# Altium schematic symbol library WCAP-ATLL.SchLib: 209 symbols (part 3 of 5)
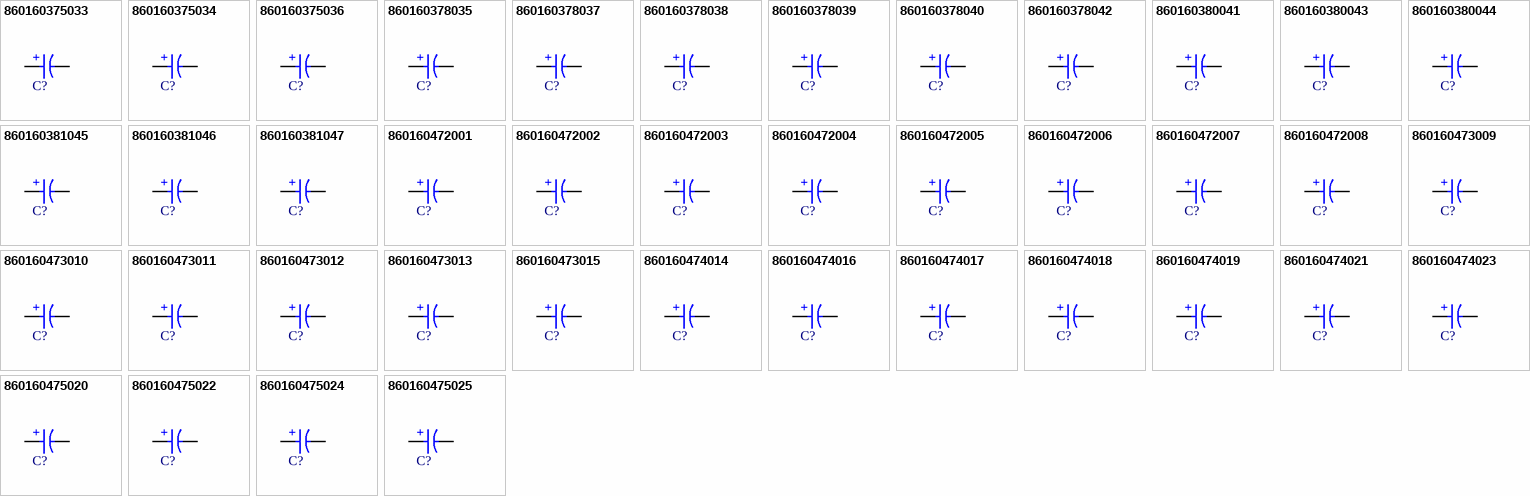
[diagram p7: symbols 860160375033 to 860160475025]

## 860160473010
designator C?, comment 82µF  (value not drawn)
WCAP-ATLL Aluminum Electrolytic Capacitor, Radial, THT, D6.3 x H11mm, 82µF, 25V; Manufacturer Part Number: 860160473010; Manufacturer: Wurth Elektronik; Capacitance Tolerance: +/-20%; Dissipation Factor: 14%; Endurance: 4000h; Leakage Current: 20.5µA; Ripple Current: 312mA; Technical Reference: ATED110820M025DSPA4D000; Category: Aluminum Electrolytic Capacitors; Match Code: WCAP-ATLL; ComponentLink1Description: Website Link; ComponentLink1URL: https://www.we-online.com/redexpert/article/860160473010?ad; ComponentLink2Description: Datasheet Link; ComponentLink2URL: https://www.we-online.com/redexpert/spec/860160473010?ad; Mount: Through Hole; Operating Temperature Max: 105°C; Operating Temperature Min: -55°C; Packaging: Ammo Pack; Height: 11mm; Diameter: 6.3mm; Capacitance: 82µF; Rated Voltage (DC): 25V
footprint WCAP-ATLL_D6.3H11
simulation model 860160473010_82uF
pins: 1 P, 2 N
text: +

## 860160473011
designator C?, comment 100µF  (value not drawn)
WCAP-ATLL Aluminum Electrolytic Capacitor, Radial, THT, D6.3 x H11mm, 100µF, 25V; Manufacturer Part Number: 860160473011; Manufacturer: Wurth Elektronik; Capacitance Tolerance: +/-20%; Dissipation Factor: 14%; Endurance: 4000h; Leakage Current: 25µA; Ripple Current: 360mA; Technical Reference: ATED110101M025DSPA4D000; Category: Aluminum Electrolytic Capacitors; Match Code: WCAP-ATLL; ComponentLink1Description: Website Link; ComponentLink1URL: https://www.we-online.com/redexpert/article/860160473011?ad; ComponentLink2Description: Datasheet Link; ComponentLink2URL: https://www.we-online.com/redexpert/spec/860160473011?ad; Mount: Through Hole; Operating Temperature Max: 105°C; Operating Temperature Min: -55°C; Packaging: Ammo Pack; Height: 11mm; Diameter: 6.3mm; Capacitance: 100µF; Rated Voltage (DC): 25V
footprint WCAP-ATLL_D6.3H11
simulation model 860160473011_100uF
pins: 1 P, 2 N
text: +

## 860160473012
designator C?, comment 120µF  (value not drawn)
WCAP-ATLL Aluminum Electrolytic Capacitor, Radial, THT, D6.3 x H11mm, 120µF, 25V; Manufacturer Part Number: 860160473012; Manufacturer: Wurth Elektronik; Capacitance Tolerance: +/-20%; Dissipation Factor: 14%; Endurance: 4000h; Leakage Current: 30µA; Ripple Current: 402mA; Technical Reference: ATED110121M025DSPA4D000; Category: Aluminum Electrolytic Capacitors; Match Code: WCAP-ATLL; ComponentLink1Description: Website Link; ComponentLink1URL: https://www.we-online.com/redexpert/article/860160473012?ad; ComponentLink2Description: Datasheet Link; ComponentLink2URL: https://www.we-online.com/redexpert/spec/860160473012?ad; Mount: Through Hole; Operating Temperature Max: 105°C; Operating Temperature Min: -55°C; Packaging: Ammo Pack; Height: 11mm; Diameter: 6.3mm; Capacitance: 120µF; Rated Voltage (DC): 25V
footprint WCAP-ATLL_D6.3H11
simulation model 860160473012_120uF
pins: 1 P, 2 N
text: +

## 860160473013
designator C?, comment 150µF  (value not drawn)
WCAP-ATLL Aluminum Electrolytic Capacitor, Radial, THT, D6.3 x H15mm, 150µF, 25V; Manufacturer Part Number: 860160473013; Manufacturer: Wurth Elektronik; Capacitance Tolerance: +/-20%; Dissipation Factor: 14%; Endurance: 4000h; Leakage Current: 37.5µA; Ripple Current: 510mA; Technical Reference: ATED150151M025DSPA4D000; Category: Aluminum Electrolytic Capacitors; Match Code: WCAP-ATLL; ComponentLink1Description: Website Link; ComponentLink1URL: https://www.we-online.com/redexpert/article/860160473013?ad; ComponentLink2Description: Datasheet Link; ComponentLink2URL: https://www.we-online.com/redexpert/spec/860160473013?ad; Mount: Through Hole; Operating Temperature Max: 105°C; Operating Temperature Min: -55°C; Packaging: Ammo Pack; Height: 15mm; Diameter: 6.3mm; Capacitance: 150µF; Rated Voltage (DC): 25V
footprint WCAP-ATLL_D6.3H15
simulation model 860160473013_150uF
pins: 1 P, 2 N
text: +

## 860160473015
designator C?, comment 180µF  (value not drawn)
WCAP-ATLL Aluminum Electrolytic Capacitor, Radial, THT, D6.3 x H15mm, 180µF, 25V; Manufacturer Part Number: 860160473015; Manufacturer: Wurth Elektronik; Capacitance Tolerance: +/-20%; Dissipation Factor: 14%; Endurance: 4000h; Leakage Current: 45µA; Ripple Current: 546mA; Technical Reference: ATED150181M025DSPA4D000; Category: Aluminum Electrolytic Capacitors; Match Code: WCAP-ATLL; ComponentLink1Description: Website Link; ComponentLink1URL: https://www.we-online.com/redexpert/article/860160473015?ad; ComponentLink2Description: Datasheet Link; ComponentLink2URL: https://www.we-online.com/redexpert/spec/860160473015?ad; Mount: Through Hole; Operating Temperature Max: 105°C; Operating Temperature Min: -55°C; Packaging: Ammo Pack; Height: 15mm; Diameter: 6.3mm; Capacitance: 180µF; Rated Voltage (DC): 25V
footprint WCAP-ATLL_D6.3H15
simulation model 860160473015_180uF
pins: 1 P, 2 N
text: +

## 860160474014
designator C?, comment 150µF  (value not drawn)
WCAP-ATLL Aluminum Electrolytic Capacitor, Radial, THT, D8 x H11.5mm, 150µF, 25V; Manufacturer Part Number: 860160474014; Manufacturer: Wurth Elektronik; Capacitance Tolerance: +/-20%; Dissipation Factor: 14%; Endurance: 7000h; Leakage Current: 37.5µA; Ripple Current: 528mA; Technical Reference: ATEE115151M025DSPA7G000; Category: Aluminum Electrolytic Capacitors; Match Code: WCAP-ATLL; ComponentLink1Description: Website Link; ComponentLink1URL: https://www.we-online.com/redexpert/article/860160474014?ad; ComponentLink2Description: Datasheet Link; ComponentLink2URL: https://www.we-online.com/redexpert/spec/860160474014?ad; Mount: Through Hole; Operating Temperature Max: 105°C; Operating Temperature Min: -55°C; Packaging: Ammo Pack; Height: 11.5mm; Diameter: 8mm; Capacitance: 150µF; Rated Voltage (DC): 25V
footprint WCAP-ATLL_D8H11.5
simulation model 860160474014_150uF
pins: 1 P, 2 N
text: +

## 860160474016
designator C?, comment 180µF  (value not drawn)
WCAP-ATLL Aluminum Electrolytic Capacitor, Radial, THT, D8 x H11.5mm, 180µF, 25V; Manufacturer Part Number: 860160474016; Manufacturer: Wurth Elektronik; Capacitance Tolerance: +/-20%; Dissipation Factor: 14%; Endurance: 7000h; Leakage Current: 45µA; Ripple Current: 552mA; Technical Reference: ATEE115181M025DSPA7G000; Category: Aluminum Electrolytic Capacitors; Match Code: WCAP-ATLL; ComponentLink1Description: Website Link; ComponentLink1URL: https://www.we-online.com/redexpert/article/860160474016?ad; ComponentLink2Description: Datasheet Link; ComponentLink2URL: https://www.we-online.com/redexpert/spec/860160474016?ad; Mount: Through Hole; Operating Temperature Max: 105°C; Operating Temperature Min: -55°C; Packaging: Ammo Pack; Height: 11.5mm; Diameter: 8mm; Capacitance: 180µF; Rated Voltage (DC): 25V
footprint WCAP-ATLL_D8H11.5
simulation model 860160474016_180uF
pins: 1 P, 2 N
text: +

## 860160474017
designator C?, comment 220µF  (value not drawn)
WCAP-ATLL Aluminum Electrolytic Capacitor, Radial, THT, D8 x H11.5mm, 220µF, 25V; Manufacturer Part Number: 860160474017; Manufacturer: Wurth Elektronik; Capacitance Tolerance: +/-20%; Dissipation Factor: 14%; Endurance: 7000h; Leakage Current: 55µA; Ripple Current: 618mA; Technical Reference: ATEE115221M025DSPA7G000; Category: Aluminum Electrolytic Capacitors; Match Code: WCAP-ATLL; ComponentLink1Description: Website Link; ComponentLink1URL: https://www.we-online.com/redexpert/article/860160474017?ad; ComponentLink2Description: Datasheet Link; ComponentLink2URL: https://www.we-online.com/redexpert/spec/860160474017?ad; Mount: Through Hole; Operating Temperature Max: 105°C; Operating Temperature Min: -55°C; Packaging: Ammo Pack; Height: 11.5mm; Diameter: 8mm; Capacitance: 220µF; Rated Voltage (DC): 25V
footprint WCAP-ATLL_D8H11.5
simulation model 860160474017_220uF
pins: 1 P, 2 N
text: +

## 860160474018
designator C?, comment 270µF  (value not drawn)
WCAP-ATLL Aluminum Electrolytic Capacitor, Radial, THT, D8 x H11.5mm, 270µF, 25V; Manufacturer Part Number: 860160474018; Manufacturer: Wurth Elektronik; Capacitance Tolerance: +/-20%; Dissipation Factor: 14%; Endurance: 4000h; Leakage Current: 67.5µA; Ripple Current: 750mA; Technical Reference: ATEE115271M025DSPA7D000; Category: Aluminum Electrolytic Capacitors; Match Code: WCAP-ATLL; ComponentLink1Description: Website Link; ComponentLink1URL: https://www.we-online.com/redexpert/article/860160474018?ad; ComponentLink2Description: Datasheet Link; ComponentLink2URL: https://www.we-online.com/redexpert/spec/860160474018?ad; Mount: Through Hole; Operating Temperature Max: 105°C; Operating Temperature Min: -55°C; Packaging: Ammo Pack; Height: 11.5mm; Diameter: 8mm; Capacitance: 270µF; Rated Voltage (DC): 25V
footprint WCAP-ATLL_D8H11.5
simulation model 860160474018_270uF
pins: 1 P, 2 N
text: +

## 860160474019
designator C?, comment 330µF  (value not drawn)
WCAP-ATLL Aluminum Electrolytic Capacitor, Radial, THT, D8 x H16mm, 330µF, 25V; Manufacturer Part Number: 860160474019; Manufacturer: Wurth Elektronik; Capacitance Tolerance: +/-20%; Dissipation Factor: 14%; Endurance: 7000h; Leakage Current: 82.5µA; Ripple Current: 960mA; Technical Reference: ATEE160331M025DSPA7G000; Category: Aluminum Electrolytic Capacitors; Match Code: WCAP-ATLL; ComponentLink1Description: Website Link; ComponentLink1URL: https://www.we-online.com/redexpert/article/860160474019?ad; ComponentLink2Description: Datasheet Link; ComponentLink2URL: https://www.we-online.com/redexpert/spec/860160474019?ad; Mount: Through Hole; Operating Temperature Max: 105°C; Operating Temperature Min: -55°C; Packaging: Ammo Pack; Height: 16mm; Diameter: 8mm; Capacitance: 330µF; Rated Voltage (DC): 25V
footprint WCAP-ATLL_D8H16
simulation model 860160474019_330uF
pins: 1 P, 2 N
text: +

## 860160474021
designator C?, comment 470µF  (value not drawn)
WCAP-ATLL Aluminum Electrolytic Capacitor, Radial, THT, D8 x H20mm, 470µF, 25V; Manufacturer Part Number: 860160474021; Manufacturer: Wurth Elektronik; Capacitance Tolerance: +/-20%; Dissipation Factor: 14%; Endurance: 7000h; Leakage Current: 117.5µA; Ripple Current: 1056mA; Technical Reference: ATEE200471M025DSPA7G000; Category: Aluminum Electrolytic Capacitors; Match Code: WCAP-ATLL; ComponentLink1Description: Website Link; ComponentLink1URL: https://www.we-online.com/redexpert/article/860160474021?ad; ComponentLink2Description: Datasheet Link; ComponentLink2URL: https://www.we-online.com/redexpert/spec/860160474021?ad; Mount: Through Hole; Operating Temperature Max: 105°C; Operating Temperature Min: -55°C; Packaging: Ammo Pack; Height: 20mm; Diameter: 8mm; Capacitance: 470µF; Rated Voltage (DC): 25V
footprint WCAP-ATLL_D8H20
simulation model 860160474021_470uF
pins: 1 P, 2 N
text: +

## 860160474023
designator C?, comment 560µF  (value not drawn)
WCAP-ATLL Aluminum Electrolytic Capacitor, Radial, THT, D8 x H20mm, 560µF, 25V; Manufacturer Part Number: 860160474023; Manufacturer: Wurth Elektronik; Capacitance Tolerance: +/-20%; Dissipation Factor: 14%; Endurance: 4000h; Leakage Current: 140µA; Ripple Current: 1224mA; Technical Reference: ATEE200561M025DSPA7D000; Category: Aluminum Electrolytic Capacitors; Match Code: WCAP-ATLL; ComponentLink1Description: Website Link; ComponentLink1URL: https://www.we-online.com/redexpert/article/860160474023?ad; ComponentLink2Description: Datasheet Link; ComponentLink2URL: https://www.we-online.com/redexpert/spec/860160474023?ad; Mount: Through Hole; Operating Temperature Max: 105°C; Operating Temperature Min: -55°C; Packaging: Ammo Pack; Height: 20mm; Diameter: 8mm; Capacitance: 560µF; Rated Voltage (DC): 25V
footprint WCAP-ATLL_D8H20
simulation model 860160474023_560uF
pins: 1 P, 2 N
text: +

## 860160475020
designator C?, comment 330µF  (value not drawn)
WCAP-ATLL Aluminum Electrolytic Capacitor, Radial, THT, D10 x H12.5mm, 330µF, 25V; Manufacturer Part Number: 860160475020; Manufacturer: Wurth Elektronik; Capacitance Tolerance: +/-20%; Dissipation Factor: 14%; Endurance: 7000h; Leakage Current: 82.5µA; Ripple Current: 924mA; Technical Reference: ATEF125331M025DSPA9G000; Category: Aluminum Electrolytic Capacitors; Match Code: WCAP-ATLL; ComponentLink1Description: Website Link; ComponentLink1URL: https://www.we-online.com/redexpert/article/860160475020?ad; ComponentLink2Description: Datasheet Link; ComponentLink2URL: https://www.we-online.com/redexpert/spec/860160475020?ad; Mount: Through Hole; Operating Temperature Max: 105°C; Operating Temperature Min: -55°C; Packaging: Ammo Pack; Height: 12.5mm; Diameter: 10mm; Capacitance: 330µF; Rated Voltage (DC): 25V
footprint WCAP-ATLL_D10H12.5
simulation model 860160475020_330uF
pins: 1 P, 2 N
text: +

## 860160475022
designator C?, comment 470µF  (value not drawn)
WCAP-ATLL Aluminum Electrolytic Capacitor, Radial, THT, D10 x H12.5mm, 470µF, 25V; Manufacturer Part Number: 860160475022; Manufacturer: Wurth Elektronik; Capacitance Tolerance: +/-20%; Dissipation Factor: 14%; Endurance: 6000h; Leakage Current: 117.5µA; Ripple Current: 1020mA; Technical Reference: ATEF125471M025DSPA9F000; Category: Aluminum Electrolytic Capacitors; Match Code: WCAP-ATLL; ComponentLink1Description: Website Link; ComponentLink1URL: https://www.we-online.com/redexpert/article/860160475022?ad; ComponentLink2Description: Datasheet Link; ComponentLink2URL: https://www.we-online.com/redexpert/spec/860160475022?ad; Mount: Through Hole; Operating Temperature Max: 105°C; Operating Temperature Min: -55°C; Packaging: Ammo Pack; Height: 12.5mm; Diameter: 10mm; Capacitance: 470µF; Rated Voltage (DC): 25V
footprint WCAP-ATLL_D10H12.5
simulation model 860160475022_470uF
pins: 1 P, 2 N
text: +

## 860160475024
designator C?, comment 560µF  (value not drawn)
WCAP-ATLL Aluminum Electrolytic Capacitor, Radial, THT, D10 x H16mm, 560µF, 25V; Manufacturer Part Number: 860160475024; Manufacturer: Wurth Elektronik; Capacitance Tolerance: +/-20%; Dissipation Factor: 14%; Endurance: 7000h; Leakage Current: 140µA; Ripple Current: 1260mA; Technical Reference: ATEF160561M025DSPAAG000; Category: Aluminum Electrolytic Capacitors; Match Code: WCAP-ATLL; ComponentLink1Description: Website Link; ComponentLink1URL: https://www.we-online.com/redexpert/article/860160475024?ad; ComponentLink2Description: Datasheet Link; ComponentLink2URL: https://www.we-online.com/redexpert/spec/860160475024?ad; Mount: Through Hole; Operating Temperature Max: 105°C; Operating Temperature Min: -55°C; Packaging: Ammo Pack; Height: 16mm; Diameter: 10mm; Capacitance: 560µF; Rated Voltage (DC): 25V
footprint WCAP-ATLL_D10H16
simulation model 860160475024_560uF
pins: 1 P, 2 N
text: +

## 860160475025
designator C?, comment 680µF  (value not drawn)
WCAP-ATLL Aluminum Electrolytic Capacitor, Radial, THT, D10 x H20mm, 680µF, 25V; Manufacturer Part Number: 860160475025; Manufacturer: Wurth Elektronik; Capacitance Tolerance: +/-20%; Dissipation Factor: 14%; Endurance: 7000h; Leakage Current: 170µA; Ripple Current: 1470mA; Technical Reference: ATEF200681M025DSPAAG000; Category: Aluminum Electrolytic Capacitors; Match Code: WCAP-ATLL; ComponentLink1Description: Website Link; ComponentLink1URL: https://www.we-online.com/redexpert/article/860160475025?ad; ComponentLink2Description: Datasheet Link; ComponentLink2URL: https://www.we-online.com/redexpert/spec/860160475025?ad; Mount: Through Hole; Operating Temperature Max: 105°C; Operating Temperature Min: -55°C; Packaging: Ammo Pack; Height: 20mm; Diameter: 10mm; Capacitance: 680µF; Rated Voltage (DC): 25V
footprint WCAP-ATLL_D10H20
simulation model 860160475025_680uF
pins: 1 P, 2 N
text: +

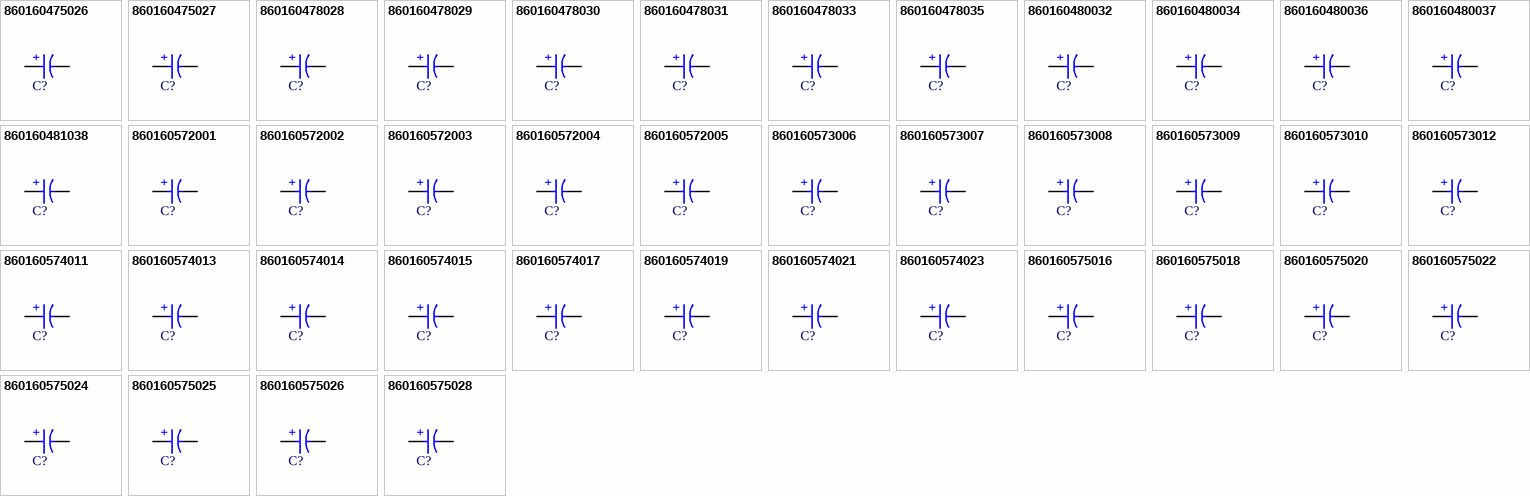
[diagram p3: symbols 860160475026 to 860160575028]

## 860160475026
designator C?, comment 820µF  (value not drawn)
WCAP-ATLL Aluminum Electrolytic Capacitor, Radial, THT, D10 x H20mm, 820µF, 25V; Manufacturer Part Number: 860160475026; Manufacturer: Wurth Elektronik; Capacitance Tolerance: +/-20%; Dissipation Factor: 14%; Endurance: 6000h; Leakage Current: 205µA; Ripple Current: 1668mA; Technical Reference: ATEF200821M025DSPAAF000; Category: Aluminum Electrolytic Capacitors; Match Code: WCAP-ATLL; ComponentLink1Description: Website Link; ComponentLink1URL: https://www.we-online.com/redexpert/article/860160475026?ad; ComponentLink2Description: Datasheet Link; ComponentLink2URL: https://www.we-online.com/redexpert/spec/860160475026?ad; Mount: Through Hole; Operating Temperature Max: 105°C; Operating Temperature Min: -55°C; Packaging: Ammo Pack; Height: 20mm; Diameter: 10mm; Capacitance: 820µF; Rated Voltage (DC): 25V
footprint WCAP-ATLL_D10H20
simulation model 860160475026_820uF
pins: 1 P, 2 N
text: +

## 860160475027
designator C?, comment 1000µF  (value not drawn)
WCAP-ATLL Aluminum Electrolytic Capacitor, Radial, THT, D10 x H25mm, 1000µF, 25V; Manufacturer Part Number: 860160475027; Manufacturer: Wurth Elektronik; Capacitance Tolerance: +/-20%; Dissipation Factor: 14%; Endurance: 6000h; Leakage Current: 250µA; Ripple Current: 1812mA; Technical Reference: ATEF250102M025DSPAAF000; Category: Aluminum Electrolytic Capacitors; Match Code: WCAP-ATLL; ComponentLink1Description: Website Link; ComponentLink1URL: https://www.we-online.com/redexpert/article/860160475027?ad; ComponentLink2Description: Datasheet Link; ComponentLink2URL: https://www.we-online.com/redexpert/spec/860160475027?ad; Mount: Through Hole; Operating Temperature Max: 105°C; Operating Temperature Min: -55°C; Packaging: Ammo Pack; Height: 25mm; Diameter: 10mm; Capacitance: 1000µF; Rated Voltage (DC): 25V
footprint WCAP-ATLL_D10H25
simulation model 860160475027_1mF
pins: 1 P, 2 N
text: +

## 860160478028
designator C?, comment 1000µF  (value not drawn)
WCAP-ATLL Aluminum Electrolytic Capacitor, Radial, THT, D13 x H20mm, 1000µF, 25V; Manufacturer Part Number: 860160478028; Manufacturer: Wurth Elektronik; Capacitance Tolerance: +/-20%; Dissipation Factor: 14%; Endurance: 10000h; Leakage Current: 250µA; Ripple Current: 1872mA; Technical Reference: ATEI200102M025DSPACK000; Category: Aluminum Electrolytic Capacitors; Match Code: WCAP-ATLL; ComponentLink1Description: Website Link; ComponentLink1URL: https://www.we-online.com/redexpert/article/860160478028?ad; ComponentLink2Description: Datasheet Link; ComponentLink2URL: https://www.we-online.com/redexpert/spec/860160478028?ad; Mount: Through Hole; Operating Temperature Max: 105°C; Operating Temperature Min: -55°C; Packaging: Ammo Pack; Height: 20mm; Diameter: 13mm; Capacitance: 1000µF; Rated Voltage (DC): 25V
footprint WCAP-ATLL_D13H20
simulation model 860160478028_1mF
pins: 1 P, 2 N
text: +

## 860160478029
designator C?, comment 1200µF  (value not drawn)
WCAP-ATLL Aluminum Electrolytic Capacitor, Radial, THT, D13 x H20mm, 1200µF, 25V; Manufacturer Part Number: 860160478029; Manufacturer: Wurth Elektronik; Capacitance Tolerance: +/-20%; Dissipation Factor: 14%; Endurance: 10000h; Leakage Current: 300µA; Ripple Current: 2028mA; Technical Reference: ATEI200122M025DSPACK000; Category: Aluminum Electrolytic Capacitors; Match Code: WCAP-ATLL; ComponentLink1Description: Website Link; ComponentLink1URL: https://www.we-online.com/redexpert/article/860160478029?ad; ComponentLink2Description: Datasheet Link; ComponentLink2URL: https://www.we-online.com/redexpert/spec/860160478029?ad; Mount: Through Hole; Operating Temperature Max: 105°C; Operating Temperature Min: -55°C; Packaging: Ammo Pack; Height: 20mm; Diameter: 13mm; Capacitance: 1200µF; Rated Voltage (DC): 25V
footprint WCAP-ATLL_D13H20
simulation model 860160478029_1.2mF
pins: 1 P, 2 N
text: +

## 860160478030
designator C?, comment 1500µF  (value not drawn)
WCAP-ATLL Aluminum Electrolytic Capacitor, Radial, THT, D13 x H20mm, 1500µF, 25V; Manufacturer Part Number: 860160478030; Manufacturer: Wurth Elektronik; Capacitance Tolerance: +/-20%; Dissipation Factor: 14%; Endurance: 7000h; Leakage Current: 375µA; Ripple Current: 2124mA; Technical Reference: ATEI200152M025DSPACG000; Category: Aluminum Electrolytic Capacitors; Match Code: WCAP-ATLL; ComponentLink1Description: Website Link; ComponentLink1URL: https://www.we-online.com/redexpert/article/860160478030?ad; ComponentLink2Description: Datasheet Link; ComponentLink2URL: https://www.we-online.com/redexpert/spec/860160478030?ad; Mount: Through Hole; Operating Temperature Max: 105°C; Operating Temperature Min: -55°C; Packaging: Ammo Pack; Height: 20mm; Diameter: 13mm; Capacitance: 1500µF; Rated Voltage (DC): 25V
footprint WCAP-ATLL_D13H20
simulation model 860160478030_1.5mF
pins: 1 P, 2 N
text: +

## 860160478031
designator C?, comment 1800µF  (value not drawn)
WCAP-ATLL Aluminum Electrolytic Capacitor, Radial, THT, D13 x H30mm, 1800µF, 25V; Manufacturer Part Number: 860160478031; Manufacturer: Wurth Elektronik; Capacitance Tolerance: +/-20%; Dissipation Factor: 14%; Endurance: 10000h; Leakage Current: 450µA; Ripple Current: 2310mA; Technical Reference: ATEI300182M025DSPACK000; Category: Aluminum Electrolytic Capacitors; Match Code: WCAP-ATLL; ComponentLink1Description: Website Link; ComponentLink1URL: https://www.we-online.com/redexpert/article/860160478031?ad; ComponentLink2Description: Datasheet Link; ComponentLink2URL: https://www.we-online.com/redexpert/spec/860160478031?ad; Mount: Through Hole; Operating Temperature Max: 105°C; Operating Temperature Min: -55°C; Packaging: Ammo Pack; Height: 30mm; Diameter: 13mm; Capacitance: 1800µF; Rated Voltage (DC): 25V
footprint WCAP-ATLL_D13H30
simulation model 860160478031_1.8mF
pins: 1 P, 2 N
text: +

## 860160478033
designator C?, comment 2200µF  (value not drawn)
WCAP-ATLL Aluminum Electrolytic Capacitor, Radial, THT, D13 x H30mm, 2200µF, 25V; Manufacturer Part Number: 860160478033; Manufacturer: Wurth Elektronik; Capacitance Tolerance: +/-20%; Dissipation Factor: 14%; Endurance: 7000h; Leakage Current: 550µA; Ripple Current: 2592mA; Technical Reference: ATEI300222M025DSPACG000; Category: Aluminum Electrolytic Capacitors; Match Code: WCAP-ATLL; ComponentLink1Description: Website Link; ComponentLink1URL: https://www.we-online.com/redexpert/article/860160478033?ad; ComponentLink2Description: Datasheet Link; ComponentLink2URL: https://www.we-online.com/redexpert/spec/860160478033?ad; Mount: Through Hole; Operating Temperature Max: 105°C; Operating Temperature Min: -55°C; Packaging: Ammo Pack; Height: 30mm; Diameter: 13mm; Capacitance: 2200µF; Rated Voltage (DC): 25V
footprint WCAP-ATLL_D13H30
simulation model 860160478033_2.2mF
pins: 1 P, 2 N
text: +

## 860160478035
designator C?, comment 2700µF  (value not drawn)
WCAP-ATLL Aluminum Electrolytic Capacitor, Radial, THT, D13 x H35mm, 2700µF, 25V; Manufacturer Part Number: 860160478035; Manufacturer: Wurth Elektronik; Capacitance Tolerance: +/-20%; Dissipation Factor: 14%; Endurance: 10000h; Leakage Current: 675µA; Ripple Current: 2850mA; Technical Reference: ATEI350272M025DSPABK000; Category: Aluminum Electrolytic Capacitors; Match Code: WCAP-ATLL; ComponentLink1Description: Website Link; ComponentLink1URL: https://www.we-online.com/redexpert/article/860160478035?ad; ComponentLink2Description: Datasheet Link; ComponentLink2URL: https://www.we-online.com/redexpert/spec/860160478035?ad; Mount: Through Hole; Operating Temperature Max: 105°C; Operating Temperature Min: -55°C; Packaging: Ammo Pack; Height: 35mm; Diameter: 13mm; Capacitance: 2700µF; Rated Voltage (DC): 25V
footprint WCAP-ATLL_D13H35
simulation model 860160478035_2.7mF
pins: 1 P, 2 N
text: +

## 860160480032
designator C?, comment 1800µF  (value not drawn)
WCAP-ATLL Aluminum Electrolytic Capacitor, Radial, THT, D16 x H25mm, 1800µF, 25V; Manufacturer Part Number: 860160480032; Manufacturer: Wurth Elektronik; Capacitance Tolerance: +/-20%; Dissipation Factor: 14%; Endurance: 10000h; Leakage Current: 450µA; Ripple Current: 2340mA; Technical Reference: ATEK250182M025DSPAEK000; Category: Aluminum Electrolytic Capacitors; Match Code: WCAP-ATLL; ComponentLink1Description: Website Link; ComponentLink1URL: https://www.we-online.com/redexpert/article/860160480032?ad; ComponentLink2Description: Datasheet Link; ComponentLink2URL: https://www.we-online.com/redexpert/spec/860160480032?ad; Mount: Through Hole; Operating Temperature Max: 105°C; Operating Temperature Min: -55°C; Packaging: Ammo Pack; Height: 25mm; Diameter: 16mm; Capacitance: 1800µF; Rated Voltage (DC): 25V
footprint WCAP-ATLL_D16H25
simulation model 860160480032_1.8mF
pins: 1 P, 2 N
text: +

## 860160480034
designator C?, comment 2200µF  (value not drawn)
WCAP-ATLL Aluminum Electrolytic Capacitor, Radial, THT, D16 x H25mm, 2200µF, 25V; Manufacturer Part Number: 860160480034; Manufacturer: Wurth Elektronik; Capacitance Tolerance: +/-20%; Dissipation Factor: 14%; Endurance: 10000h; Leakage Current: 550µA; Ripple Current: 2712mA; Technical Reference: ATEK250222M025DSPAEK000; Category: Aluminum Electrolytic Capacitors; Match Code: WCAP-ATLL; ComponentLink1Description: Website Link; ComponentLink1URL: https://www.we-online.com/redexpert/article/860160480034?ad; ComponentLink2Description: Datasheet Link; ComponentLink2URL: https://www.we-online.com/redexpert/spec/860160480034?ad; Mount: Through Hole; Operating Temperature Max: 105°C; Operating Temperature Min: -55°C; Packaging: Ammo Pack; Height: 25mm; Diameter: 16mm; Capacitance: 2200µF; Rated Voltage (DC): 25V
footprint WCAP-ATLL_D16H25
simulation model 860160480034_2.2mF
pins: 1 P, 2 N
text: +

## 860160480036
designator C?, comment 2700µF  (value not drawn)
WCAP-ATLL Aluminum Electrolytic Capacitor, Radial, THT, D16 x H31.5mm, 2700µF, 25V; Manufacturer Part Number: 860160480036; Manufacturer: Wurth Elektronik; Capacitance Tolerance: +/-20%; Dissipation Factor: 14%; Endurance: 10000h; Leakage Current: 675µA; Ripple Current: 2958mA; Technical Reference: ATEK315272M025DSPADK000; Category: Aluminum Electrolytic Capacitors; Match Code: WCAP-ATLL; ComponentLink1Description: Website Link; ComponentLink1URL: https://www.we-online.com/redexpert/article/860160480036?ad; ComponentLink2Description: Datasheet Link; ComponentLink2URL: https://www.we-online.com/redexpert/spec/860160480036?ad; Mount: Through Hole; Operating Temperature Max: 105°C; Operating Temperature Min: -55°C; Packaging: Ammo Pack; Height: 31.5mm; Diameter: 16mm; Capacitance: 2700µF; Rated Voltage (DC): 25V
footprint WCAP-ATLL_D16H31.5
simulation model 860160480036_2.7mF
pins: 1 P, 2 N
text: +

## 860160480037
designator C?, comment 3300µF  (value not drawn)
WCAP-ATLL Aluminum Electrolytic Capacitor, Radial, THT, D16 x H31.5mm, 3300µF, 25V; Manufacturer Part Number: 860160480037; Manufacturer: Wurth Elektronik; Capacitance Tolerance: +/-20%; Dissipation Factor: 14%; Endurance: 7000h; Leakage Current: 825µA; Ripple Current: 3204mA; Technical Reference: ATEK315332M025DSPADG000; Category: Aluminum Electrolytic Capacitors; Match Code: WCAP-ATLL; ComponentLink1Description: Website Link; ComponentLink1URL: https://www.we-online.com/redexpert/article/860160480037?ad; ComponentLink2Description: Datasheet Link; ComponentLink2URL: https://www.we-online.com/redexpert/spec/860160480037?ad; Mount: Through Hole; Operating Temperature Max: 105°C; Operating Temperature Min: -55°C; Packaging: Ammo Pack; Height: 31.5mm; Diameter: 16mm; Capacitance: 3300µF; Rated Voltage (DC): 25V
footprint WCAP-ATLL_D16H31.5
simulation model 860160480037_3.3mF
pins: 1 P, 2 N
text: +

## 860160481038
designator C?, comment 3300µF  (value not drawn)
WCAP-ATLL Aluminum Electrolytic Capacitor, Radial, THT, D18 x H25mm, 3300µF, 25V; Manufacturer Part Number: 860160481038; Manufacturer: Wurth Elektronik; Capacitance Tolerance: +/-20%; Dissipation Factor: 14%; Endurance: 7000h; Leakage Current: 825µA; Ripple Current: 3156mA; Technical Reference: ATEL250332M025DSPAEG000; Category: Aluminum Electrolytic Capacitors; Match Code: WCAP-ATLL; ComponentLink1Description: Website Link; ComponentLink1URL: https://www.we-online.com/redexpert/article/860160481038?ad; ComponentLink2Description: Datasheet Link; ComponentLink2URL: https://www.we-online.com/redexpert/spec/860160481038?ad; Mount: Through Hole; Operating Temperature Max: 105°C; Operating Temperature Min: -55°C; Packaging: Ammo Pack; Height: 25mm; Diameter: 18mm; Capacitance: 3300µF; Rated Voltage (DC): 25V
footprint WCAP-ATLL_D18H25
simulation model 860160481038_3.3mF
pins: 1 P, 2 N
text: +

## 860160572001
designator C?, comment 10µF  (value not drawn)
WCAP-ATLL Aluminum Electrolytic Capacitor, Radial, THT, D5 x H11mm, 10µF, 35V; Manufacturer Part Number: 860160572001; Manufacturer: Wurth Elektronik; Capacitance Tolerance: +/-20%; Dissipation Factor: 12%; Endurance: 4000h; Leakage Current: 3.5µA; Ripple Current: 84mA; Technical Reference: ATEC110100M035DSPA3D000; Category: Aluminum Electrolytic Capacitors; Match Code: WCAP-ATLL; ComponentLink1Description: Website Link; ComponentLink1URL: https://www.we-online.com/redexpert/article/860160572001?ad; ComponentLink2Description: Datasheet Link; ComponentLink2URL: https://www.we-online.com/redexpert/spec/860160572001?ad; Mount: Through Hole; Operating Temperature Max: 105°C; Operating Temperature Min: -55°C; Packaging: Ammo Pack; Height: 11mm; Diameter: 5mm; Capacitance: 10µF; Rated Voltage (DC): 35V
footprint WCAP-ATLL_D5H11
simulation model 860160572001_10uF
pins: 1 P, 2 N
text: +

## 860160572002
designator C?, comment 15µF  (value not drawn)
WCAP-ATLL Aluminum Electrolytic Capacitor, Radial, THT, D5 x H11mm, 15µF, 35V; Manufacturer Part Number: 860160572002; Manufacturer: Wurth Elektronik; Capacitance Tolerance: +/-20%; Dissipation Factor: 12%; Endurance: 4000h; Leakage Current: 5.25µA; Ripple Current: 144mA; Technical Reference: ATEC110150M035DSPA3D000; Category: Aluminum Electrolytic Capacitors; Match Code: WCAP-ATLL; ComponentLink1Description: Website Link; ComponentLink1URL: https://www.we-online.com/redexpert/article/860160572002?ad; ComponentLink2Description: Datasheet Link; ComponentLink2URL: https://www.we-online.com/redexpert/spec/860160572002?ad; Mount: Through Hole; Operating Temperature Max: 105°C; Operating Temperature Min: -55°C; Packaging: Ammo Pack; Height: 11mm; Diameter: 5mm; Capacitance: 15µF; Rated Voltage (DC): 35V
footprint WCAP-ATLL_D5H11
simulation model 860160572002_15uF
pins: 1 P, 2 N
text: +

## 860160572003
designator C?, comment 22µF  (value not drawn)
WCAP-ATLL Aluminum Electrolytic Capacitor, Radial, THT, D5 x H11mm, 22µF, 35V; Manufacturer Part Number: 860160572003; Manufacturer: Wurth Elektronik; Capacitance Tolerance: +/-20%; Dissipation Factor: 12%; Endurance: 4000h; Leakage Current: 7.7µA; Ripple Current: 162mA; Technical Reference: ATEC110220M035DSPA3D000; Category: Aluminum Electrolytic Capacitors; Match Code: WCAP-ATLL; ComponentLink1Description: Website Link; ComponentLink1URL: https://www.we-online.com/redexpert/article/860160572003?ad; ComponentLink2Description: Datasheet Link; ComponentLink2URL: https://www.we-online.com/redexpert/spec/860160572003?ad; Mount: Through Hole; Operating Temperature Max: 105°C; Operating Temperature Min: -55°C; Packaging: Ammo Pack; Height: 11mm; Diameter: 5mm; Capacitance: 22µF; Rated Voltage (DC): 35V
footprint WCAP-ATLL_D5H11
simulation model 860160572003_22uF
pins: 1 P, 2 N
text: +

## 860160572004
designator C?, comment 27µF  (value not drawn)
WCAP-ATLL Aluminum Electrolytic Capacitor, Radial, THT, D5 x H11mm, 27µF, 35V; Manufacturer Part Number: 860160572004; Manufacturer: Wurth Elektronik; Capacitance Tolerance: +/-20%; Dissipation Factor: 12%; Endurance: 3000h; Leakage Current: 9.45µA; Ripple Current: 174mA; Technical Reference: ATEC110270M035DSPA3C000; Category: Aluminum Electrolytic Capacitors; Match Code: WCAP-ATLL; ComponentLink1Description: Website Link; ComponentLink1URL: https://www.we-online.com/redexpert/article/860160572004?ad; ComponentLink2Description: Datasheet Link; ComponentLink2URL: https://www.we-online.com/redexpert/spec/860160572004?ad; Mount: Through Hole; Operating Temperature Max: 105°C; Operating Temperature Min: -55°C; Packaging: Ammo Pack; Height: 11mm; Diameter: 5mm; Capacitance: 27µF; Rated Voltage (DC): 35V
footprint WCAP-ATLL_D5H11
simulation model 860160572004_27uF
pins: 1 P, 2 N
text: +

## 860160572005
designator C?, comment 33µF  (value not drawn)
WCAP-ATLL Aluminum Electrolytic Capacitor, Radial, THT, D5 x H11mm, 33µF, 35V; Manufacturer Part Number: 860160572005; Manufacturer: Wurth Elektronik; Capacitance Tolerance: +/-20%; Dissipation Factor: 12%; Endurance: 3000h; Leakage Current: 11.55µA; Ripple Current: 222mA; Technical Reference: ATEC110330M035DSPA3C000; Category: Aluminum Electrolytic Capacitors; Match Code: WCAP-ATLL; ComponentLink1Description: Website Link; ComponentLink1URL: https://www.we-online.com/redexpert/article/860160572005?ad; ComponentLink2Description: Datasheet Link; ComponentLink2URL: https://www.we-online.com/redexpert/spec/860160572005?ad; Mount: Through Hole; Operating Temperature Max: 105°C; Operating Temperature Min: -55°C; Packaging: Ammo Pack; Height: 11mm; Diameter: 5mm; Capacitance: 33µF; Rated Voltage (DC): 35V
footprint WCAP-ATLL_D5H11
simulation model 860160572005_33uF
pins: 1 P, 2 N
text: +

## 860160573006
designator C?, comment 39µF  (value not drawn)
WCAP-ATLL Aluminum Electrolytic Capacitor, Radial, THT, D6.3 x H11mm, 39µF, 35V; Manufacturer Part Number: 860160573006; Manufacturer: Wurth Elektronik; Capacitance Tolerance: +/-20%; Dissipation Factor: 12%; Endurance: 4000h; Leakage Current: 13.65µA; Ripple Current: 252mA; Technical Reference: ATED110390M035DSPA4D000; Category: Aluminum Electrolytic Capacitors; Match Code: WCAP-ATLL; ComponentLink1Description: Website Link; ComponentLink1URL: https://www.we-online.com/redexpert/article/860160573006?ad; ComponentLink2Description: Datasheet Link; ComponentLink2URL: https://www.we-online.com/redexpert/spec/860160573006?ad; Mount: Through Hole; Operating Temperature Max: 105°C; Operating Temperature Min: -55°C; Packaging: Ammo Pack; Height: 11mm; Diameter: 6.3mm; Capacitance: 39µF; Rated Voltage (DC): 35V
footprint WCAP-ATLL_D6.3H11
simulation model 860160573006_39uF
pins: 1 P, 2 N
text: +

## 860160573007
designator C?, comment 47µF  (value not drawn)
WCAP-ATLL Aluminum Electrolytic Capacitor, Radial, THT, D6.3 x H11mm, 47µF, 35V; Manufacturer Part Number: 860160573007; Manufacturer: Wurth Elektronik; Capacitance Tolerance: +/-20%; Dissipation Factor: 12%; Endurance: 4000h; Leakage Current: 16.45µA; Ripple Current: 264mA; Technical Reference: ATED110470M035DSPA4D000; Category: Aluminum Electrolytic Capacitors; Match Code: WCAP-ATLL; ComponentLink1Description: Website Link; ComponentLink1URL: https://www.we-online.com/redexpert/article/860160573007?ad; ComponentLink2Description: Datasheet Link; ComponentLink2URL: https://www.we-online.com/redexpert/spec/860160573007?ad; Mount: Through Hole; Operating Temperature Max: 105°C; Operating Temperature Min: -55°C; Packaging: Ammo Pack; Height: 11mm; Diameter: 6.3mm; Capacitance: 47µF; Rated Voltage (DC): 35V
footprint WCAP-ATLL_D6.3H11
simulation model 860160573007_47uF
pins: 1 P, 2 N
text: +

## 860160573008
designator C?, comment 56µF  (value not drawn)
WCAP-ATLL Aluminum Electrolytic Capacitor, Radial, THT, D6.3 x H11mm, 56µF, 35V; Manufacturer Part Number: 860160573008; Manufacturer: Wurth Elektronik; Capacitance Tolerance: +/-20%; Dissipation Factor: 12%; Endurance: 3000h; Leakage Current: 19.6µA; Ripple Current: 282mA; Technical Reference: ATED110560M035DSPA4C000; Category: Aluminum Electrolytic Capacitors; Match Code: WCAP-ATLL; ComponentLink1Description: Website Link; ComponentLink1URL: https://www.we-online.com/redexpert/article/860160573008?ad; ComponentLink2Description: Datasheet Link; ComponentLink2URL: https://www.we-online.com/redexpert/spec/860160573008?ad; Mount: Through Hole; Operating Temperature Max: 105°C; Operating Temperature Min: -55°C; Packaging: Ammo Pack; Height: 11mm; Diameter: 6.3mm; Capacitance: 56µF; Rated Voltage (DC): 35V
footprint WCAP-ATLL_D6.3H11
simulation model 860160573008_56uF
pins: 1 P, 2 N
text: +

## 860160573009
designator C?, comment 68µF  (value not drawn)
WCAP-ATLL Aluminum Electrolytic Capacitor, Radial, THT, D6.3 x H11mm, 68µF, 35V; Manufacturer Part Number: 860160573009; Manufacturer: Wurth Elektronik; Capacitance Tolerance: +/-20%; Dissipation Factor: 12%; Endurance: 3000h; Leakage Current: 23.8µA; Ripple Current: 312mA; Technical Reference: ATED110680M035DSPA4C000; Category: Aluminum Electrolytic Capacitors; Match Code: WCAP-ATLL; ComponentLink1Description: Website Link; ComponentLink1URL: https://www.we-online.com/redexpert/article/860160573009?ad; ComponentLink2Description: Datasheet Link; ComponentLink2URL: https://www.we-online.com/redexpert/spec/860160573009?ad; Mount: Through Hole; Operating Temperature Max: 105°C; Operating Temperature Min: -55°C; Packaging: Ammo Pack; Height: 11mm; Diameter: 6.3mm; Capacitance: 68µF; Rated Voltage (DC): 35V
footprint WCAP-ATLL_D6.3H11
simulation model 860160573009_68uF
pins: 1 P, 2 N
text: +

## 860160573010
designator C?, comment 82µF  (value not drawn)
WCAP-ATLL Aluminum Electrolytic Capacitor, Radial, THT, D6.3 x H15mm, 82µF, 35V; Manufacturer Part Number: 860160573010; Manufacturer: Wurth Elektronik; Capacitance Tolerance: +/-20%; Dissipation Factor: 12%; Endurance: 4000h; Leakage Current: 28.7µA; Ripple Current: 354mA; Technical Reference: ATED150820M035DSPA4D000; Category: Aluminum Electrolytic Capacitors; Match Code: WCAP-ATLL; ComponentLink1Description: Website Link; ComponentLink1URL: https://www.we-online.com/redexpert/article/860160573010?ad; ComponentLink2Description: Datasheet Link; ComponentLink2URL: https://www.we-online.com/redexpert/spec/860160573010?ad; Mount: Through Hole; Operating Temperature Max: 105°C; Operating Temperature Min: -55°C; Packaging: Ammo Pack; Height: 15mm; Diameter: 6.3mm; Capacitance: 82µF; Rated Voltage (DC): 35V
footprint WCAP-ATLL_D6.3H15
simulation model 860160573010_82uF
pins: 1 P, 2 N
text: +

## 860160573012
designator C?, comment 100µF  (value not drawn)
WCAP-ATLL Aluminum Electrolytic Capacitor, Radial, THT, D6.3 x H15mm, 100µF, 35V; Manufacturer Part Number: 860160573012; Manufacturer: Wurth Elektronik; Capacitance Tolerance: +/-20%; Dissipation Factor: 12%; Endurance: 3000h; Leakage Current: 35µA; Ripple Current: 378mA; Technical Reference: ATED150101M035DSPA4C000; Category: Aluminum Electrolytic Capacitors; Match Code: WCAP-ATLL; ComponentLink1Description: Website Link; ComponentLink1URL: https://www.we-online.com/redexpert/article/860160573012?ad; ComponentLink2Description: Datasheet Link; ComponentLink2URL: https://www.we-online.com/redexpert/spec/860160573012?ad; Mount: Through Hole; Operating Temperature Max: 105°C; Operating Temperature Min: -55°C; Packaging: Ammo Pack; Height: 15mm; Diameter: 6.3mm; Capacitance: 100µF; Rated Voltage (DC): 35V
footprint WCAP-ATLL_D6.3H15
simulation model 860160573012_100uF
pins: 1 P, 2 N
text: +

## 860160574011
designator C?, comment 82µF  (value not drawn)
WCAP-ATLL Aluminum Electrolytic Capacitor, Radial, THT, D8 x H11.5mm, 82µF, 35V; Manufacturer Part Number: 860160574011; Manufacturer: Wurth Elektronik; Capacitance Tolerance: +/-20%; Dissipation Factor: 12%; Endurance: 7000h; Leakage Current: 28.7µA; Ripple Current: 384mA; Technical Reference: ATEE115820M035DSPA7G000; Category: Aluminum Electrolytic Capacitors; Match Code: WCAP-ATLL; ComponentLink1Description: Website Link; ComponentLink1URL: https://www.we-online.com/redexpert/article/860160574011?ad; ComponentLink2Description: Datasheet Link; ComponentLink2URL: https://www.we-online.com/redexpert/spec/860160574011?ad; Mount: Through Hole; Operating Temperature Max: 105°C; Operating Temperature Min: -55°C; Packaging: Ammo Pack; Height: 11.5mm; Diameter: 8mm; Capacitance: 82µF; Rated Voltage (DC): 35V
footprint WCAP-ATLL_D8H11.5
simulation model 860160574011_82uF
pins: 1 P, 2 N
text: +

## 860160574013
designator C?, comment 100µF  (value not drawn)
WCAP-ATLL Aluminum Electrolytic Capacitor, Radial, THT, D8 x H11.5mm, 100µF, 35V; Manufacturer Part Number: 860160574013; Manufacturer: Wurth Elektronik; Capacitance Tolerance: +/-20%; Dissipation Factor: 12%; Endurance: 7000h; Leakage Current: 35µA; Ripple Current: 414mA; Technical Reference: ATEE115101M035DSPA7G000; Category: Aluminum Electrolytic Capacitors; Match Code: WCAP-ATLL; ComponentLink1Description: Website Link; ComponentLink1URL: https://www.we-online.com/redexpert/article/860160574013?ad; ComponentLink2Description: Datasheet Link; ComponentLink2URL: https://www.we-online.com/redexpert/spec/860160574013?ad; Mount: Through Hole; Operating Temperature Max: 105°C; Operating Temperature Min: -55°C; Packaging: Ammo Pack; Height: 11.5mm; Diameter: 8mm; Capacitance: 100µF; Rated Voltage (DC): 35V
footprint WCAP-ATLL_D8H11.5
simulation model 860160574013_100uF
pins: 1 P, 2 N
text: +

## 860160574014
designator C?, comment 120µF  (value not drawn)
WCAP-ATLL Aluminum Electrolytic Capacitor, Radial, THT, D8 x H11.5mm, 120µF, 35V; Manufacturer Part Number: 860160574014; Manufacturer: Wurth Elektronik; Capacitance Tolerance: +/-20%; Dissipation Factor: 12%; Endurance: 4000h; Leakage Current: 42µA; Ripple Current: 546mA; Technical Reference: ATEE115121M035DSPA7D000; Category: Aluminum Electrolytic Capacitors; Match Code: WCAP-ATLL; ComponentLink1Description: Website Link; ComponentLink1URL: https://www.we-online.com/redexpert/article/860160574014?ad; ComponentLink2Description: Datasheet Link; ComponentLink2URL: https://www.we-online.com/redexpert/spec/860160574014?ad; Mount: Through Hole; Operating Temperature Max: 105°C; Operating Temperature Min: -55°C; Packaging: Ammo Pack; Height: 11.5mm; Diameter: 8mm; Capacitance: 120µF; Rated Voltage (DC): 35V
footprint WCAP-ATLL_D8H11.5
simulation model 860160574014_120uF
pins: 1 P, 2 N
text: +

## 860160574015
designator C?, comment 150µF  (value not drawn)
WCAP-ATLL Aluminum Electrolytic Capacitor, Radial, THT, D8 x H16mm, 150µF, 35V; Manufacturer Part Number: 860160574015; Manufacturer: Wurth Elektronik; Capacitance Tolerance: +/-20%; Dissipation Factor: 12%; Endurance: 7000h; Leakage Current: 52.5µA; Ripple Current: 714mA; Technical Reference: ATEE160151M035DSPA7G000; Category: Aluminum Electrolytic Capacitors; Match Code: WCAP-ATLL; ComponentLink1Description: Website Link; ComponentLink1URL: https://www.we-online.com/redexpert/article/860160574015?ad; ComponentLink2Description: Datasheet Link; ComponentLink2URL: https://www.we-online.com/redexpert/spec/860160574015?ad; Mount: Through Hole; Operating Temperature Max: 105°C; Operating Temperature Min: -55°C; Packaging: Ammo Pack; Height: 16mm; Diameter: 8mm; Capacitance: 150µF; Rated Voltage (DC): 35V
footprint WCAP-ATLL_D8H16
simulation model 860160574015_150uF
pins: 1 P, 2 N
text: +

## 860160574017
designator C?, comment 180µF  (value not drawn)
WCAP-ATLL Aluminum Electrolytic Capacitor, Radial, THT, D8 x H16mm, 180µF, 35V; Manufacturer Part Number: 860160574017; Manufacturer: Wurth Elektronik; Capacitance Tolerance: +/-20%; Dissipation Factor: 12%; Endurance: 7000h; Leakage Current: 63µA; Ripple Current: 792mA; Technical Reference: ATEE160181M035DSPA7G000; Category: Aluminum Electrolytic Capacitors; Match Code: WCAP-ATLL; ComponentLink1Description: Website Link; ComponentLink1URL: https://www.we-online.com/redexpert/article/860160574017?ad; ComponentLink2Description: Datasheet Link; ComponentLink2URL: https://www.we-online.com/redexpert/spec/860160574017?ad; Mount: Through Hole; Operating Temperature Max: 105°C; Operating Temperature Min: -55°C; Packaging: Ammo Pack; Height: 16mm; Diameter: 8mm; Capacitance: 180µF; Rated Voltage (DC): 35V
footprint WCAP-ATLL_D8H16
simulation model 860160574017_180uF
pins: 1 P, 2 N
text: +

## 860160574019
designator C?, comment 220µF  (value not drawn)
WCAP-ATLL Aluminum Electrolytic Capacitor, Radial, THT, D8 x H16mm, 220µF, 35V; Manufacturer Part Number: 860160574019; Manufacturer: Wurth Elektronik; Capacitance Tolerance: +/-20%; Dissipation Factor: 12%; Endurance: 4000h; Leakage Current: 77µA; Ripple Current: 864mA; Technical Reference: ATEE160221M035DSPA7D000; Category: Aluminum Electrolytic Capacitors; Match Code: WCAP-ATLL; ComponentLink1Description: Website Link; ComponentLink1URL: https://www.we-online.com/redexpert/article/860160574019?ad; ComponentLink2Description: Datasheet Link; ComponentLink2URL: https://www.we-online.com/redexpert/spec/860160574019?ad; Mount: Through Hole; Operating Temperature Max: 105°C; Operating Temperature Min: -55°C; Packaging: Ammo Pack; Height: 16mm; Diameter: 8mm; Capacitance: 220µF; Rated Voltage (DC): 35V
footprint WCAP-ATLL_D8H16
simulation model 860160574019_220uF
pins: 1 P, 2 N
text: +

## 860160574021
designator C?, comment 270µF  (value not drawn)
WCAP-ATLL Aluminum Electrolytic Capacitor, Radial, THT, D8 x H20mm, 270µF, 35V; Manufacturer Part Number: 860160574021; Manufacturer: Wurth Elektronik; Capacitance Tolerance: +/-20%; Dissipation Factor: 12%; Endurance: 4000h; Leakage Current: 94.5µA; Ripple Current: 1056mA; Technical Reference: ATEE200271M035DSPA7D000; Category: Aluminum Electrolytic Capacitors; Match Code: WCAP-ATLL; ComponentLink1Description: Website Link; ComponentLink1URL: https://www.we-online.com/redexpert/article/860160574021?ad; ComponentLink2Description: Datasheet Link; ComponentLink2URL: https://www.we-online.com/redexpert/spec/860160574021?ad; Mount: Through Hole; Operating Temperature Max: 105°C; Operating Temperature Min: -55°C; Packaging: Ammo Pack; Height: 20mm; Diameter: 8mm; Capacitance: 270µF; Rated Voltage (DC): 35V
footprint WCAP-ATLL_D8H20
simulation model 860160574021_270uF
pins: 1 P, 2 N
text: +

## 860160574023
designator C?, comment 330µF  (value not drawn)
WCAP-ATLL Aluminum Electrolytic Capacitor, Radial, THT, D8 x H20mm, 330µF, 35V; Manufacturer Part Number: 860160574023; Manufacturer: Wurth Elektronik; Capacitance Tolerance: +/-20%; Dissipation Factor: 12%; Endurance: 4000h; Leakage Current: 115.5µA; Ripple Current: 1140mA; Technical Reference: ATEE200331M035DSPA7D000; Category: Aluminum Electrolytic Capacitors; Match Code: WCAP-ATLL; ComponentLink1Description: Website Link; ComponentLink1URL: https://www.we-online.com/redexpert/article/860160574023?ad; ComponentLink2Description: Datasheet Link; ComponentLink2URL: https://www.we-online.com/redexpert/spec/860160574023?ad; Mount: Through Hole; Operating Temperature Max: 105°C; Operating Temperature Min: -55°C; Packaging: Ammo Pack; Height: 20mm; Diameter: 8mm; Capacitance: 330µF; Rated Voltage (DC): 35V
footprint WCAP-ATLL_D8H20
simulation model 860160574023_330uF
pins: 1 P, 2 N
text: +

## 860160575016
designator C?, comment 150µF  (value not drawn)
WCAP-ATLL Aluminum Electrolytic Capacitor, Radial, THT, D10 x H12.5mm, 150µF, 35V; Manufacturer Part Number: 860160575016; Manufacturer: Wurth Elektronik; Capacitance Tolerance: +/-20%; Dissipation Factor: 12%; Endurance: 7000h; Leakage Current: 52.5µA; Ripple Current: 720mA; Technical Reference: ATEF125151M035DSPA9G000; Category: Aluminum Electrolytic Capacitors; Match Code: WCAP-ATLL; ComponentLink1Description: Website Link; ComponentLink1URL: https://www.we-online.com/redexpert/article/860160575016?ad; ComponentLink2Description: Datasheet Link; ComponentLink2URL: https://www.we-online.com/redexpert/spec/860160575016?ad; Mount: Through Hole; Operating Temperature Max: 105°C; Operating Temperature Min: -55°C; Packaging: Ammo Pack; Height: 12.5mm; Diameter: 10mm; Capacitance: 150µF; Rated Voltage (DC): 35V
footprint WCAP-ATLL_D10H12.5
simulation model 860160575016_150uF
pins: 1 P, 2 N
text: +

## 860160575018
designator C?, comment 180µF  (value not drawn)
WCAP-ATLL Aluminum Electrolytic Capacitor, Radial, THT, D10 x H12.5mm, 180µF, 35V; Manufacturer Part Number: 860160575018; Manufacturer: Wurth Elektronik; Capacitance Tolerance: +/-20%; Dissipation Factor: 12%; Endurance: 7000h; Leakage Current: 63µA; Ripple Current: 804mA; Technical Reference: ATEF125181M035DSPA9G000; Category: Aluminum Electrolytic Capacitors; Match Code: WCAP-ATLL; ComponentLink1Description: Website Link; ComponentLink1URL: https://www.we-online.com/redexpert/article/860160575018?ad; ComponentLink2Description: Datasheet Link; ComponentLink2URL: https://www.we-online.com/redexpert/spec/860160575018?ad; Mount: Through Hole; Operating Temperature Max: 105°C; Operating Temperature Min: -55°C; Packaging: Ammo Pack; Height: 12.5mm; Diameter: 10mm; Capacitance: 180µF; Rated Voltage (DC): 35V
footprint WCAP-ATLL_D10H12.5
simulation model 860160575018_180uF
pins: 1 P, 2 N
text: +

## 860160575020
designator C?, comment 220µF  (value not drawn)
WCAP-ATLL Aluminum Electrolytic Capacitor, Radial, THT, D10 x H12.5mm, 220µF, 35V; Manufacturer Part Number: 860160575020; Manufacturer: Wurth Elektronik; Capacitance Tolerance: +/-20%; Dissipation Factor: 12%; Endurance: 6000h; Leakage Current: 77µA; Ripple Current: 888mA; Technical Reference: ATEF125221M035DSPA9F000; Category: Aluminum Electrolytic Capacitors; Match Code: WCAP-ATLL; ComponentLink1Description: Website Link; ComponentLink1URL: https://www.we-online.com/redexpert/article/860160575020?ad; ComponentLink2Description: Datasheet Link; ComponentLink2URL: https://www.we-online.com/redexpert/spec/860160575020?ad; Mount: Through Hole; Operating Temperature Max: 105°C; Operating Temperature Min: -55°C; Packaging: Ammo Pack; Height: 12.5mm; Diameter: 10mm; Capacitance: 220µF; Rated Voltage (DC): 35V
footprint WCAP-ATLL_D10H12.5
simulation model 860160575020_220uF
pins: 1 P, 2 N
text: +

## 860160575022
designator C?, comment 270µF  (value not drawn)
WCAP-ATLL Aluminum Electrolytic Capacitor, Radial, THT, D10 x H12.5mm, 270µF, 35V; Manufacturer Part Number: 860160575022; Manufacturer: Wurth Elektronik; Capacitance Tolerance: +/-20%; Dissipation Factor: 12%; Endurance: 6000h; Leakage Current: 94.5µA; Ripple Current: 984mA; Technical Reference: ATEF125271M035DSPA9F000; Category: Aluminum Electrolytic Capacitors; Match Code: WCAP-ATLL; ComponentLink1Description: Website Link; ComponentLink1URL: https://www.we-online.com/redexpert/article/860160575022?ad; ComponentLink2Description: Datasheet Link; ComponentLink2URL: https://www.we-online.com/redexpert/spec/860160575022?ad; Mount: Through Hole; Operating Temperature Max: 105°C; Operating Temperature Min: -55°C; Packaging: Ammo Pack; Height: 12.5mm; Diameter: 10mm; Capacitance: 270µF; Rated Voltage (DC): 35V
footprint WCAP-ATLL_D10H12.5
simulation model 860160575022_270uF
pins: 1 P, 2 N
text: +